# EAGLE library part 475710001 (library PCB_Components)
Molex 47571 Series 8 Way Push/Pull Memory Card Connector with Solder Termination Source: Datasheet <https://www.molex.com/molex/products/datasheet.jsp?part=active/0475710001_MEMORY_CARD_SOCKET.xml>
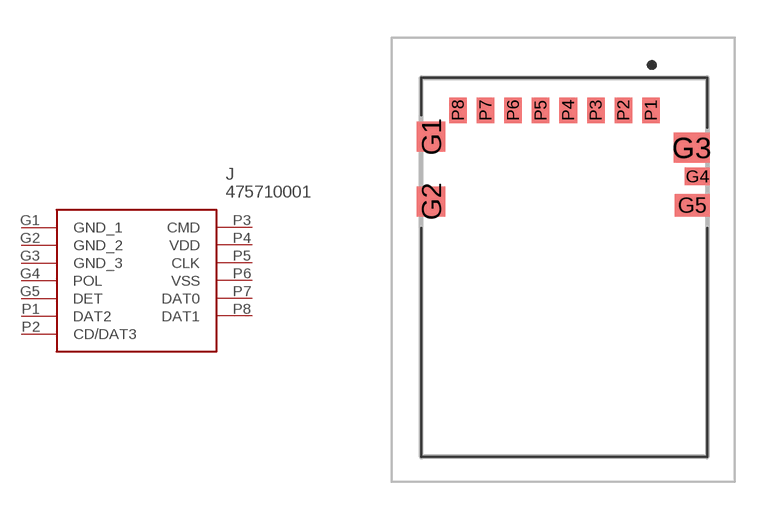
[diagram p0: symbol with the pads of 475710001; footprint 475710001]

Designator prefix J

## 475710001 (ARROW_PART_NUMBER: 475710001; ARROW_PRICE-STOCK: http://www.arrow.com/en/products/475710001/molex; DESCRIPTION: Molex 47571 Series 8 Way Push/Pull Memory Card Connector with Solder Termination; HEIGHT: 2mm; MANUFACTURER_NAME: Molex; MANUFACTURER_PART_NUMBER: 475710001)  [475710001]
G1  GND_1
G2  GND_2
G3  GND_3
G4  POL
G5  DET
P1  DAT2
P2  CD/DAT3
P3  CMD
P4  VDD
P5  CLK
P6  VSS
P7  DAT0
P8  DAT1

## Footprint 475710001 (pad centres in mm)
475710001
smd 1.15 x 1.2: G1 -5.312,-2.36; G2 -5.312,-4.95
smd 1.45 x 1.2: G3 5.088,-2.8
smd 1 x 0.7: G4 5.313,-3.95
smd 1.4 x 0.9: G5 5.113,-5.1
smd 0.7 x 1: P1 3.463,-1.31; P2 2.363,-1.31; P3 1.263,-1.31; P4 0.163,-1.31; P5 -0.937,-1.31; P6 -2.037,-1.31; P7 -3.137,-1.31; P8 -4.237,-1.31